# EAGLE library part SSW-142-02-S-Q (library con-samtec)
THROUGH-HOLE .025" SQ POST SOCKET Source: Samtec SSW.pdf
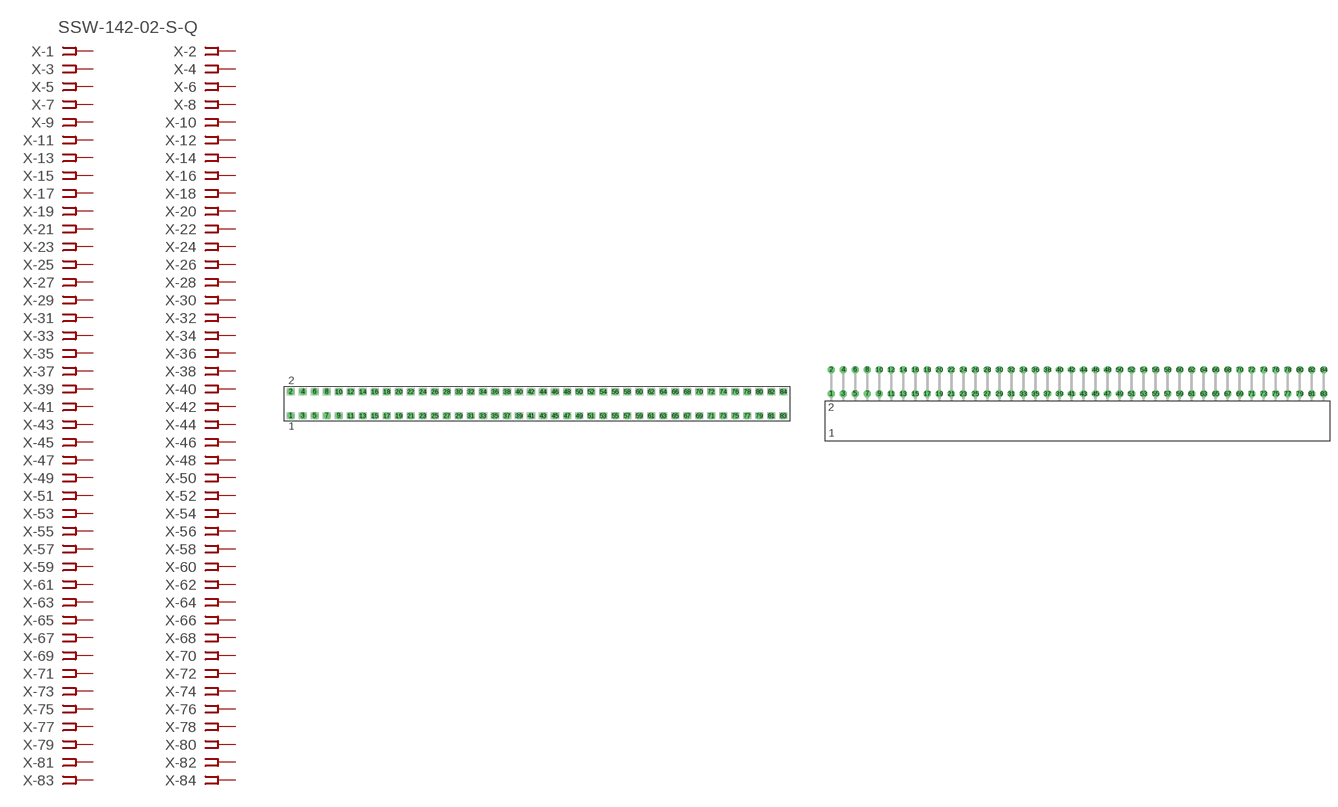
[diagram p106: symbol with the pads of SSW-142-02-S-Q; footprints SSW-142-02-S-Q, SSW-142-02-S-Q-RA]

Designator prefix X; gates -1=FPINV -2=FPIN -3=FPIN -4=FPIN -5=FPIN -6=FPIN -7=FPIN -8=FPIN -9=FPIN -10=FPIN -11=FPIN -12=FPIN -13=FPIN -14=FPIN -15=FPIN -16=FPIN -17=FPIN -18=FPIN -19=FPIN -20=FPIN -21=FPIN -22=FPIN -23=FPIN -24=FPIN -25=FPIN -26=FPIN -27=FPIN -28=FPIN -29=FPIN -30=FPIN -31=FPIN -32=FPIN -33=FPIN -34=FPIN -35=FPIN -36=FPIN -37=FPIN -38=FPIN -39=FPIN -40=FPIN -41=FPIN -42=FPIN -43=FPIN -44=FPIN -45=FPIN -46=FPIN -47=FPIN -48=FPIN -49=FPIN -50=FPIN -51=FPIN -52=FPIN -53=FPIN -54=FPIN -55=FPIN -56=FPIN -57=FPIN -58=FPIN -59=FPIN -60=FPIN -61=FPIN -62=FPIN -63=FPIN -64=FPIN -65=FPIN -66=FPIN -67=FPIN -68=FPIN -69=FPIN -70=FPIN -71=FPIN -72=FPIN -73=FPIN -74=FPIN -75=FPIN -76=FPIN -77=FPIN -78=FPIN -79=FPIN -80=FPIN -81=FPIN -82=FPIN -83=FPIN -84=FPIN

## SSW-142-02-S-Q (OC_FARNELL: unknown; OC_NEWARK: unknown)  [SSW-142-02-S-Q]
1  -1:1  pas
2  -2:1  pas
3  -3:1  pas
4  -4:1  pas
5  -5:1  pas
6  -6:1  pas
7  -7:1  pas
8  -8:1  pas
9  -9:1  pas
10  -10:1  pas
11  -11:1  pas
12  -12:1  pas
13  -13:1  pas
14  -14:1  pas
15  -15:1  pas
16  -16:1  pas
17  -17:1  pas
18  -18:1  pas
19  -19:1  pas
20  -20:1  pas
21  -21:1  pas
22  -22:1  pas
23  -23:1  pas
24  -24:1  pas
25  -25:1  pas
26  -26:1  pas
27  -27:1  pas
28  -28:1  pas
29  -29:1  pas
30  -30:1  pas
31  -31:1  pas
32  -32:1  pas
33  -33:1  pas
34  -34:1  pas
35  -35:1  pas
36  -36:1  pas
37  -37:1  pas
38  -38:1  pas
39  -39:1  pas
40  -40:1  pas
41  -41:1  pas
42  -42:1  pas
43  -43:1  pas
44  -44:1  pas
45  -45:1  pas
46  -46:1  pas
47  -47:1  pas
48  -48:1  pas
49  -49:1  pas
50  -50:1  pas
51  -51:1  pas
52  -52:1  pas
53  -53:1  pas
54  -54:1  pas
55  -55:1  pas
56  -56:1  pas
57  -57:1  pas
58  -58:1  pas
59  -59:1  pas
60  -60:1  pas
61  -61:1  pas
62  -62:1  pas
63  -63:1  pas
64  -64:1  pas
65  -65:1  pas
66  -66:1  pas
67  -67:1  pas
68  -68:1  pas
69  -69:1  pas
70  -70:1  pas
71  -71:1  pas
72  -72:1  pas
73  -73:1  pas
74  -74:1  pas
75  -75:1  pas
76  -76:1  pas
77  -77:1  pas
78  -78:1  pas
79  -79:1  pas
80  -80:1  pas
81  -81:1  pas
82  -82:1  pas
83  -83:1  pas
84  -84:1  pas

## SSW-142-02-S-QRA (OC_FARNELL: unknown; OC_NEWARK: unknown)  [SSW-142-02-S-Q-RA]
Pads as for SSW-142-02-S-Q

## Footprint SSW-142-02-S-Q (pad centres in mm)
THROUGH-HOLE .025" SQ POST SOCKET Source: Samtec SSW.pdf
drill 1 pad 1.5 octagon: 1 -52.07,-2.54; 2 -52.07,2.54; 3 -49.53,-2.54; 4 -49.53,2.54; 5 -46.99,-2.54; 6 -46.99,2.54; 7 -44.45,-2.54; 8 -44.45,2.54; 9 -41.91,-2.54; 10 -41.91,2.54; 11 -39.37,-2.54; 12 -39.37,2.54; 13 -36.83,-2.54; 14 -36.83,2.54; 15 -34.29,-2.54; 16 -34.29,2.54; 17 -31.75,-2.54; 18 -31.75,2.54; 19 -29.21,-2.54; 20 -29.21,2.54; 21 -26.67,-2.54; 22 -26.67,2.54; 23 -24.13,-2.54; 24 -24.13,2.54; 25 -21.59,-2.54; 26 -21.59,2.54; 27 -19.05,-2.54; 28 -19.05,2.54; 29 -16.51,-2.54; 30 -16.51,2.54; 31 -13.97,-2.54; 32 -13.97,2.54; 33 -11.43,-2.54; 34 -11.43,2.54; 35 -8.89,-2.54; 36 -8.89,2.54; 37 -6.35,-2.54; 38 -6.35,2.54; 39 -3.81,-2.54; 40 -3.81,2.54; 41 -1.27,-2.54; 42 -1.27,2.54; 43 1.27,-2.54; 44 1.27,2.54; 45 3.81,-2.54; 46 3.81,2.54; 47 6.35,-2.54; 48 6.35,2.54; 49 8.89,-2.54; 50 8.89,2.54; 51 11.43,-2.54; 52 11.43,2.54; 53 13.97,-2.54; 54 13.97,2.54; 55 16.51,-2.54; 56 16.51,2.54; 57 19.05,-2.54; 58 19.05,2.54; 59 21.59,-2.54; 60 21.59,2.54; 61 24.13,-2.54; 62 24.13,2.54; 63 26.67,-2.54; 64 26.67,2.54; 65 29.21,-2.54; 66 29.21,2.54; 67 31.75,-2.54; 68 31.75,2.54; 69 34.29,-2.54; 70 34.29,2.54; 71 36.83,-2.54; 72 36.83,2.54; 73 39.37,-2.54; 74 39.37,2.54; 75 41.91,-2.54; 76 41.91,2.54; 77 44.45,-2.54; 78 44.45,2.54; 79 46.99,-2.54; 80 46.99,2.54; 81 49.53,-2.54; 82 49.53,2.54; 83 52.07,-2.54; 84 52.07,2.54

## Footprint SSW-142-02-S-Q-RA (pad centres in mm)
THROUGH-HOLE .025" SQ POST SOCKET Source: Samtec SSW.pdf
drill 1 pad 1.5 octagon: 1 -52.07,1.524; 2 -52.07,6.604; 3 -49.53,1.524; 4 -49.53,6.604; 5 -46.99,1.524; 6 -46.99,6.604; 7 -44.45,1.524; 8 -44.45,6.604; 9 -41.91,1.524; 10 -41.91,6.604; 11 -39.37,1.524; 12 -39.37,6.604; 13 -36.83,1.524; 14 -36.83,6.604; 15 -34.29,1.524; 16 -34.29,6.604; 17 -31.75,1.524; 18 -31.75,6.604; 19 -29.21,1.524; 20 -29.21,6.604; 21 -26.67,1.524; 22 -26.67,6.604; 23 -24.13,1.524; 24 -24.13,6.604; 25 -21.59,1.524; 26 -21.59,6.604; 27 -19.05,1.524; 28 -19.05,6.604; 29 -16.51,1.524; 30 -16.51,6.604; 31 -13.97,1.524; 32 -13.97,6.604; 33 -11.43,1.524; 34 -11.43,6.604; 35 -8.89,1.524; 36 -8.89,6.604; 37 -6.35,1.524; 38 -6.35,6.604; 39 -3.81,1.524; 40 -3.81,6.604; 41 -1.27,1.524; 42 -1.27,6.604; 43 1.27,1.524; 44 1.27,6.604; 45 3.81,1.524; 46 3.81,6.604; 47 6.35,1.524; 48 6.35,6.604; 49 8.89,1.524; 50 8.89,6.604; 51 11.43,1.524; 52 11.43,6.604; 53 13.97,1.524; 54 13.97,6.604; 55 16.51,1.524; 56 16.51,6.604; 57 19.05,1.524; 58 19.05,6.604; 59 21.59,1.524; 60 21.59,6.604; 61 24.13,1.524; 62 24.13,6.604; 63 26.67,1.524; 64 26.67,6.604; 65 29.21,1.524; 66 29.21,6.604; 67 31.75,1.524; 68 31.75,6.604; 69 34.29,1.524; 70 34.29,6.604; 71 36.83,1.524; 72 36.83,6.604; 73 39.37,1.524; 74 39.37,6.604; 75 41.91,1.524; 76 41.91,6.604; 77 44.45,1.524; 78 44.45,6.604; 79 46.99,1.524; 80 46.99,6.604; 81 49.53,1.524; 82 49.53,6.604; 83 52.07,1.524; 84 52.07,6.604